# Altium schematic symbol library C51118.SchLib: 1 symbol
Pins are listed as number, name and electrical type; pins without a type are passive.

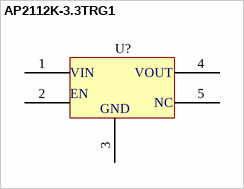
[diagram p0: symbol AP2112K-3.3TRG1]

## AP2112K-3.3TRG1
designator U?  (value not drawn)
3.3V Positive Fixed SOT-25-5 Voltage Regulators - Linear, Low Drop Out (LDO) Regulators RoHS; Name: C51118; Source: LCSC
footprint SOT-25-5_L2.9-W1.6-P0.95-LS2.8-BL (3.3V Positive Fixed SOT-25-5 Voltage Regulators - Linear, Low Drop Out (LDO) Regulators RoHS)
pins: 1 VIN, 2 EN, 3, 4, 5
text: VOUT; NC; GND